# EAGLE library part PCC160CONV (library C8051F300)
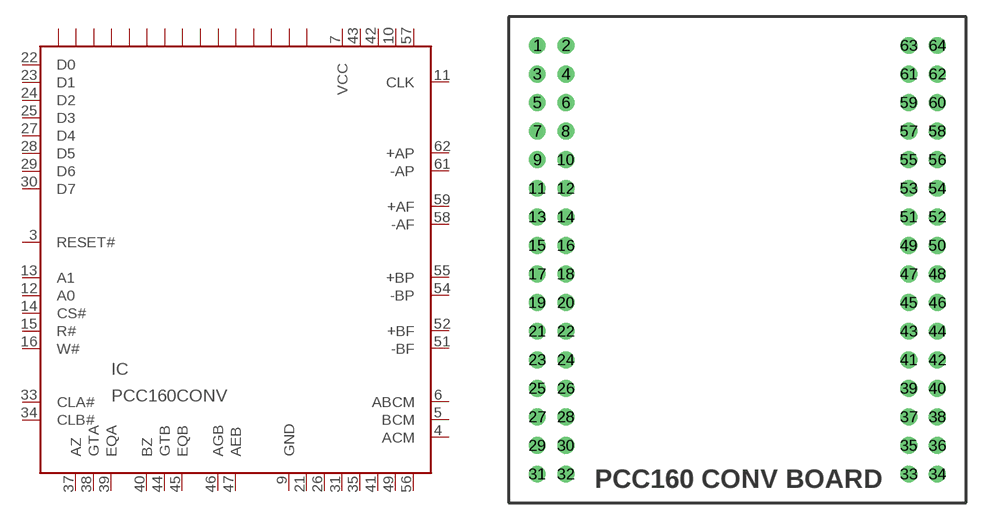
[diagram p15: symbol with the pads of PCC160CONV; footprint PCC160CONV]

Designator prefix IC

## PCC160CONV  [PCC160CONV]
1  NC  nc
2  NC  nc
3  RESET#  in
4  ACM  in
5  BCM  in
6  ABCM  in
7  VCC  pwr
8  NC  nc
9  GND  pwr
10  VCC  pwr
11  CLK  in
12  A0  in
13  A1  in
14  CS#  in
15  R#  in
16  W#  in
17  NC  nc
18  NC  nc
19  NC  nc
20  NC  nc
21  GND  pwr
22  D0
23  D1
24  D2
25  D3
26  GND  pwr
27  D4
28  D5
29  D6
30  D7
31  GND  pwr
32  NC  nc
33  CLA#  in
34  CLB#  in
35  GND  pwr
36  NC  nc
37  AZ  out
38  GTA  out
39  EQA  out
40  BZ  out
41  GND  pwr
42  VCC  pwr
43  VCC  pwr
44  GTB  out
45  EQB  out
46  AGB  out
47  AEB  out
48  NC  nc
49  GND  pwr
50  NC  nc
51  -BF  in
52  +BF  in
53  NC  nc
54  -BP  in
55  +BP  in
56  GND  pwr
57  VCC  pwr
58  -AF  in
59  +AF  in
60  NC  nc
61  -AP  in
62  +AP  in
63  NC  nc
64  NC  nc

## Footprint PCC160CONV (pad centres in mm)
drill 0.991 round: 1 -17.78,20.32; 2 -15.24,20.32; 3 -17.78,17.78; 4 -15.24,17.78; 5 -17.78,15.24; 6 -15.24,15.24; 7 -17.78,12.7; 8 -15.24,12.7; 9 -17.78,10.16; 10 -15.24,10.16; 11 -17.78,7.62; 12 -15.24,7.62; 13 -17.78,5.08; 14 -15.24,5.08; 15 -17.78,2.54; 16 -15.24,2.54; 17 -17.78,0; 18 -15.24,0; 19 -17.78,-2.54; 20 -15.24,-2.54; 21 -17.78,-5.08; 22 -15.24,-5.08; 23 -17.78,-7.62; 24 -15.24,-7.62; 25 -17.78,-10.16; 26 -15.24,-10.16; 27 -17.78,-12.7; 28 -15.24,-12.7; 29 -17.78,-15.24; 30 -15.24,-15.24; 31 -17.78,-17.78; 32 -15.24,-17.78; 33 15.24,-17.78; 34 17.78,-17.78; 35 15.24,-15.24; 36 17.78,-15.24; 37 15.24,-12.7; 38 17.78,-12.7; 39 15.24,-10.16; 40 17.78,-10.16; 41 15.24,-7.62; 42 17.78,-7.62; 43 15.24,-5.08; 44 17.78,-5.08; 45 15.24,-2.54; 46 17.78,-2.54; 47 15.24,0; 48 17.78,0; 49 15.24,2.54; 50 17.78,2.54; 51 15.24,5.08; 52 17.78,5.08; 53 15.24,7.62; 54 17.78,7.62; 55 15.24,10.16; 56 17.78,10.16; 57 15.24,12.7; 58 17.78,12.7; 59 15.24,15.24; 60 17.78,15.24; 61 15.24,17.78; 62 17.78,17.78; 63 15.24,20.32; 64 17.78,20.32